# EAGLE library part AJ3315 (library dissection)
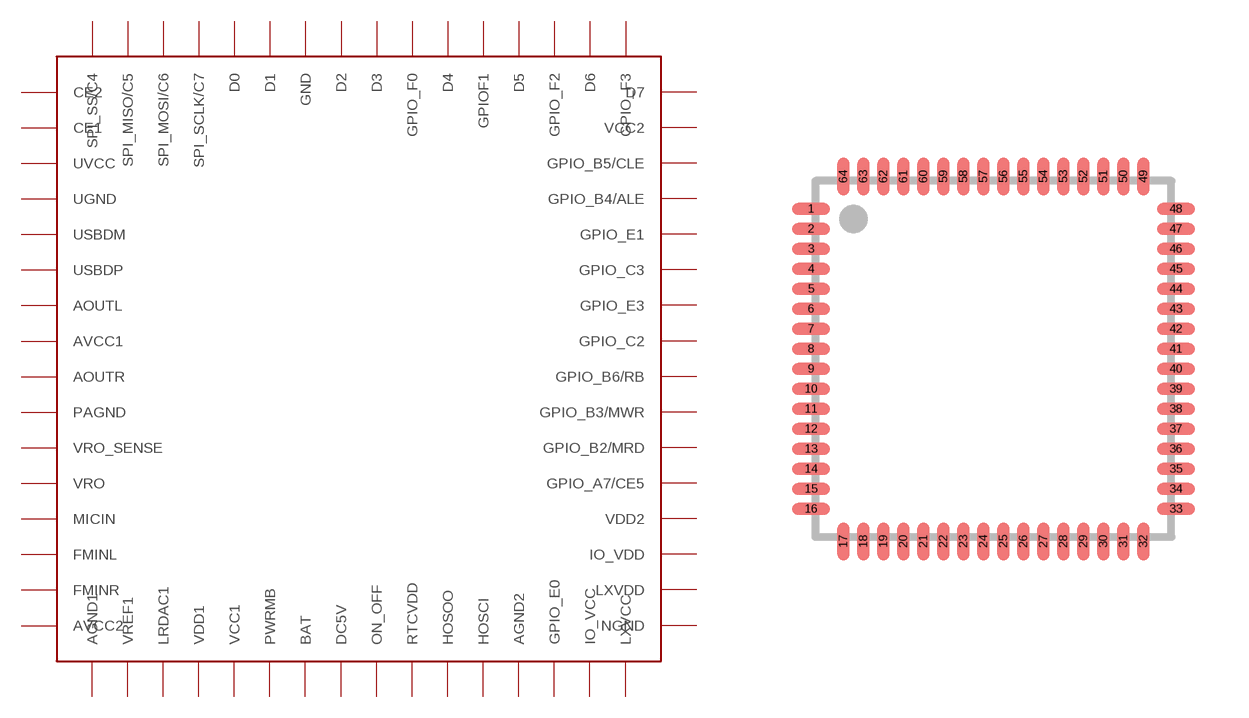
[diagram p0: symbol with the pads of 64M1; footprint 64M1]

Designator prefix -

## AJ3315  [64M1]
1  CE2
2  CE1
3  UVCC
4  UGND
5  USBDM
6  USBDP
7  AOUTL
8  AVCC1
9  AOUTR
10  PAGND
11  VRO_SENSE
12  VRO
13  MICIN
14  FMINL
15  FMINR
16  AVCC2
17  AGND1
18  VREF1
19  LRDAC1
20  VDD1
21  VCC1
22  PWRMB
23  BAT
24  DC5V
25  ON_OFF
26  RTCVDD
27  HOSOO
28  HOSCI
29  AGND2
30  GPIO_E0
31  IO_VCC
32  LXVCC
33  NGND
34  LXVDD
35  IO_VDD
36  VDD2
37  GPIO_A7/CE5
38  GPIO_B2/MRD
39  GPIO_B3/MWR
40  GPIO_B6/RB
41  GPIO_C2
42  GPIO_E3
43  GPIO_C3
44  GPIO_E1
45  GPIO_B4/ALE
46  GPIO_B5/CLE
47  VCC2
48  D7
49  GPIO_F3
50  D6
51  GPIO_F2
52  D5
53  GPIOF1
54  D4
55  GPIO_F0
56  D3
57  D2
58  GND
59  D1
60  D0
61  SPI_SCLK/C7
62  SPI_MOSI/C6
63  SPI_MISO/C5
64  SPI_SS/C4

## Footprint 64M1 (pad centres in mm)
64M1 64-pad, 9 x 9 x 1.0 mm Lead Pitch 0.50 mm, 5.40 mm Exposed Pad, Micro Lead Frame Package (MLF) Source: http://www.atmel.com .. doc8023.pdf
smd 0.95 x 0.3: 1 -4.56,3.75; 2 -4.56,3.25; 3 -4.56,2.75; 4 -4.56,2.25; 5 -4.56,1.75; 6 -4.56,1.25; 7 -4.56,0.75; 8 -4.56,0.25; 9 -4.56,-0.25; 10 -4.56,-0.75; 11 -4.56,-1.25; 12 -4.56,-1.75; 13 -4.56,-2.25; 14 -4.56,-2.75; 15 -4.56,-3.25; 16 -4.56,-3.75; 33 4.56,-3.75; 34 4.56,-3.25; 35 4.56,-2.75; 36 4.56,-2.25; 37 4.56,-1.75; 38 4.56,-1.25; 39 4.56,-0.75; 40 4.56,-0.25; 41 4.56,0.25; 42 4.56,0.75; 43 4.56,1.25; 44 4.56,1.75; 45 4.56,2.25; 46 4.56,2.75; 47 4.56,3.25; 48 4.56,3.75
smd 0.3 x 0.95: 17 -3.75,-4.56; 18 -3.25,-4.56; 19 -2.75,-4.56; 20 -2.25,-4.56; 21 -1.75,-4.56; 22 -1.25,-4.56; 23 -0.75,-4.56; 24 -0.25,-4.56; 25 0.25,-4.56; 26 0.75,-4.56; 27 1.25,-4.56; 28 1.75,-4.56; 29 2.25,-4.56; 30 2.75,-4.56; 31 3.25,-4.56; 32 3.75,-4.56; 49 3.75,4.56; 50 3.25,4.56; 51 2.75,4.56; 52 2.25,4.56; 53 1.75,4.56; 54 1.25,4.56; 55 0.75,4.56; 56 0.25,4.56; 57 -0.25,4.56; 58 -0.75,4.56; 59 -1.25,4.56; 60 -1.75,4.56; 61 -2.25,4.56; 62 -2.75,4.56; 63 -3.25,4.56; 64 -3.75,4.56